# Altium schematic symbol library eLIB.SchLib: 178 symbols (part 2 of 2)
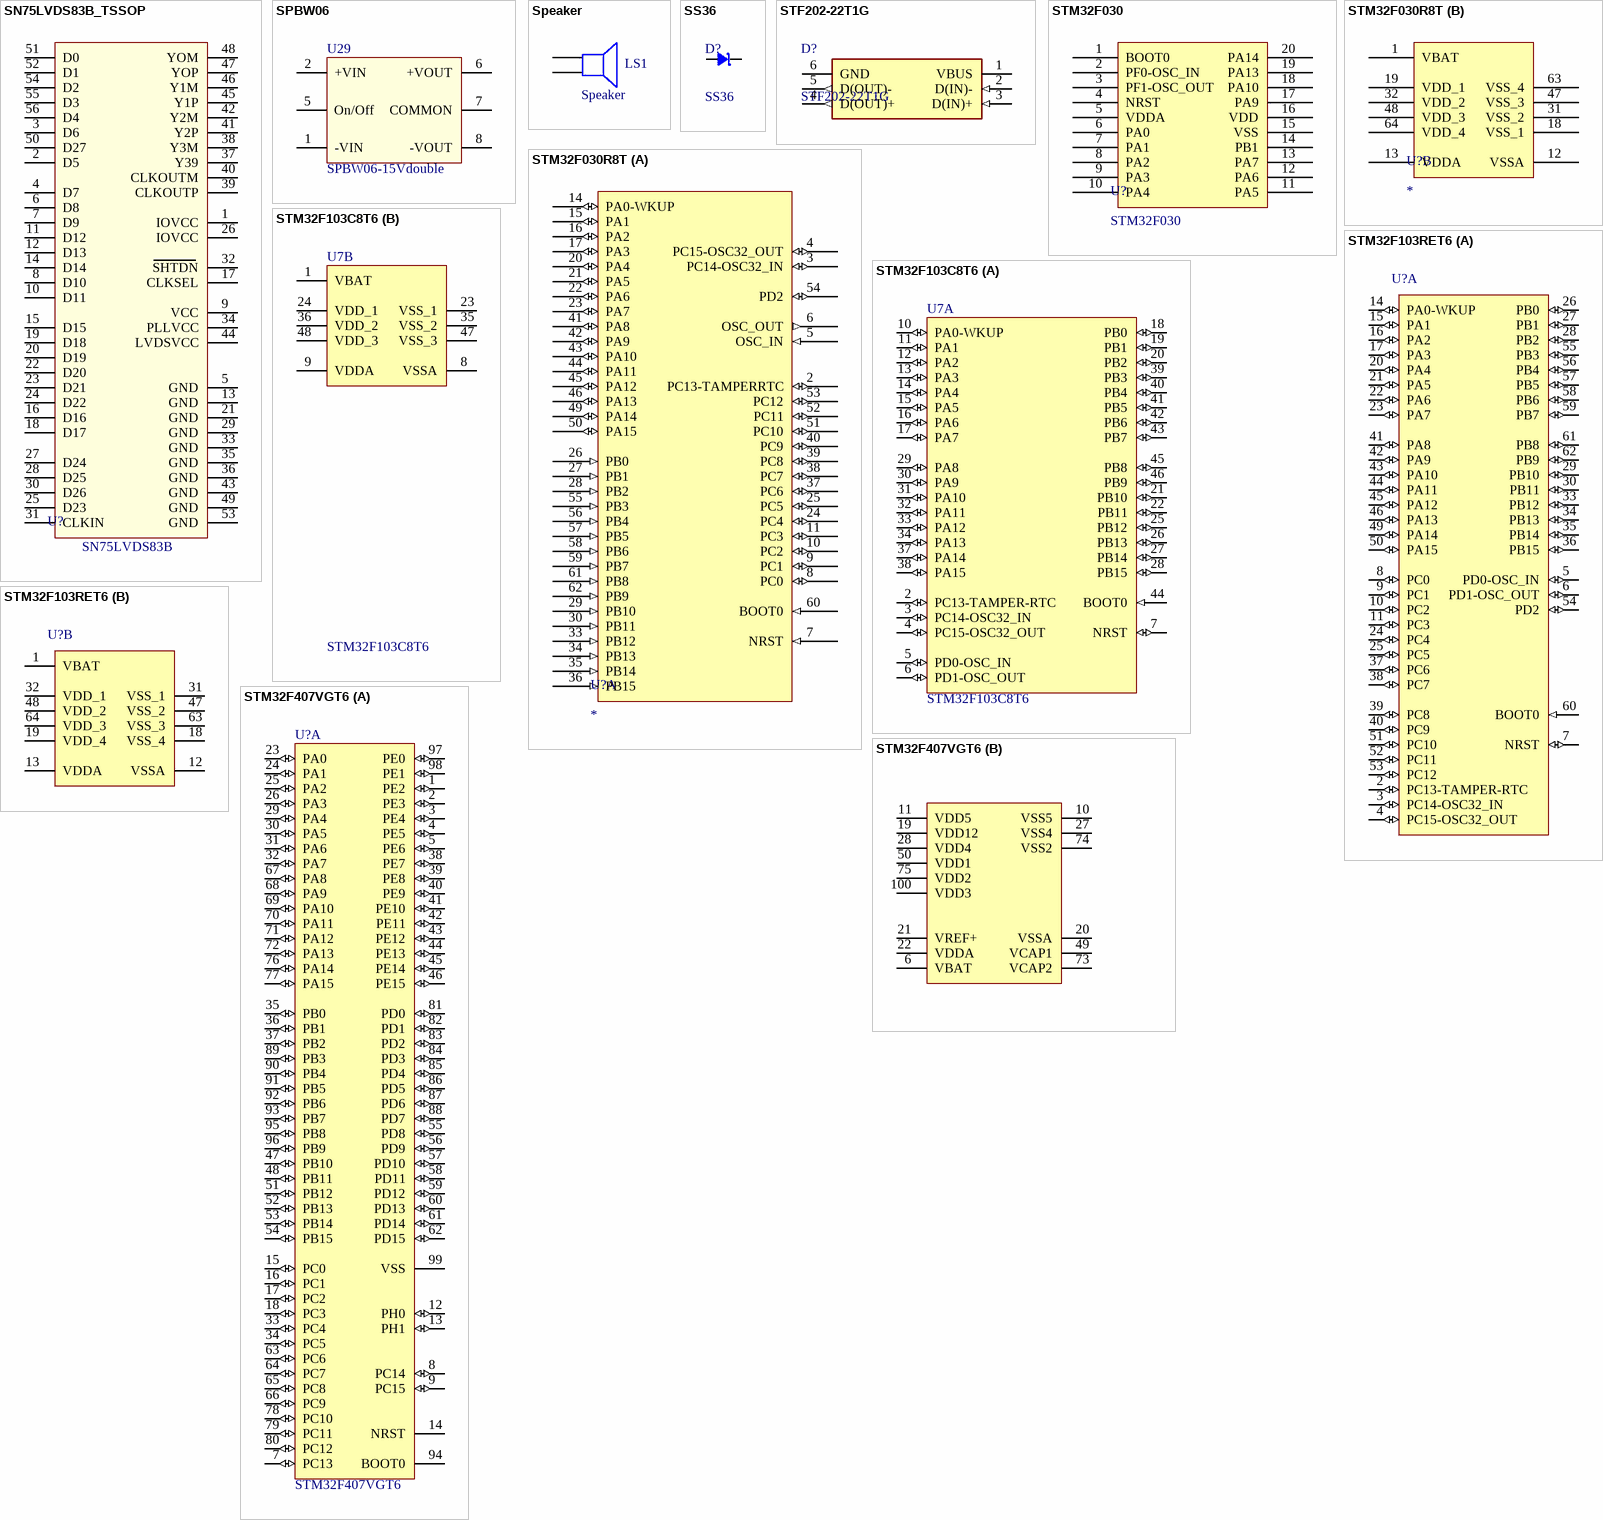
[diagram p7: symbols SN75LVDS83B_TSSOP to STM32F407VGT6]

## STM32F407VGT6
designator U?
STM32 Manta (STM32F407VGT6); Manuf_1: STM; Provided: ST; Ref St: 9175122; ECCN_US/EU: 3A991A2/NEC; Manuf_Part_1: STM32F407VGT6; Distrib: ST; Footprint: QFP100
footprint QFP50P1600X1600X160-100N
part A pins: 1 PE2 (io), 2 PE3 (io), 3 PE4 (io), 4 PE5 (io), 5 PE6 (io), 7 PC13 (io), 8 PC14 (io), 9 PC15 (io), 12 PH0 (io), 13 PH1 (io), 14 NRST, 15 PC0 (io), 16 PC1 (io), 17 PC2 (io), 18 PC3 (io), 23 PA0 (io), 24 PA1 (io), 25 PA2 (io), 26 PA3 (io), 29 PA4 (io), 30 PA5 (io), 31 PA6 (io), 32 PA7 (io), 33 PC4 (io), 34 PC5 (io), 35 PB0 (io), 36 PB1 (io), 37 PB2 (io), 38 PE7 (io), 39 PE8 (io), 40 PE9 (io), 41 PE10 (io), 42 PE11 (io), 43 PE12 (io), 44 PE13 (io), 45 PE14 (io), 46 PE15 (io), 47 PB10 (io), 48 PB11 (io), 51 PB12 (io), 52 PB13 (io), 53 PB14 (io), 54 PB15 (io), 55 PD8 (io), 56 PD9 (io), 57 PD10 (io), 58 PD11 (io), 59 PD12 (io), 60 PD13 (io), 61 PD14 (io), 62 PD15 (io), 63 PC6 (io), 64 PC7 (io), 65 PC8 (io), 66 PC9 (io), 67 PA8 (io), 68 PA9 (io), 69 PA10 (io), 70 PA11 (io), 71 PA12 (io), 72 PA13 (io), 76 PA14 (io), 77 PA15 (io), 78 PC10 (io), 79 PC11 (io), 80 PC12 (io), 81 PD0 (io), 82 PD1 (io), 83 PD2 (io), 84 PD3 (io), 85 PD4 (io), 86 PD5 (io), 87 PD6 (io), 88 PD7 (io), 89 PB3 (io), 90 PB4 (io), 91 PB5 (io), 92 PB6 (io), 93 PB7 (io), 94 BOOT0 (oc), 95 PB8 (io), 96 PB9 (io), 97 PE0 (io), 98 PE1 (io), 99 VSS
part B pins: 6 VBAT, 10 VSS5, 11 VDD5, 19 VDD12, 20 VSSA, 21 VREF+, 22 VDDA, 27 VSS4, 28 VDD4, 49 VCAP1, 50 VDD1, 73 VCAP2, 74 VSS2, 75 VDD2, 100 VDD3

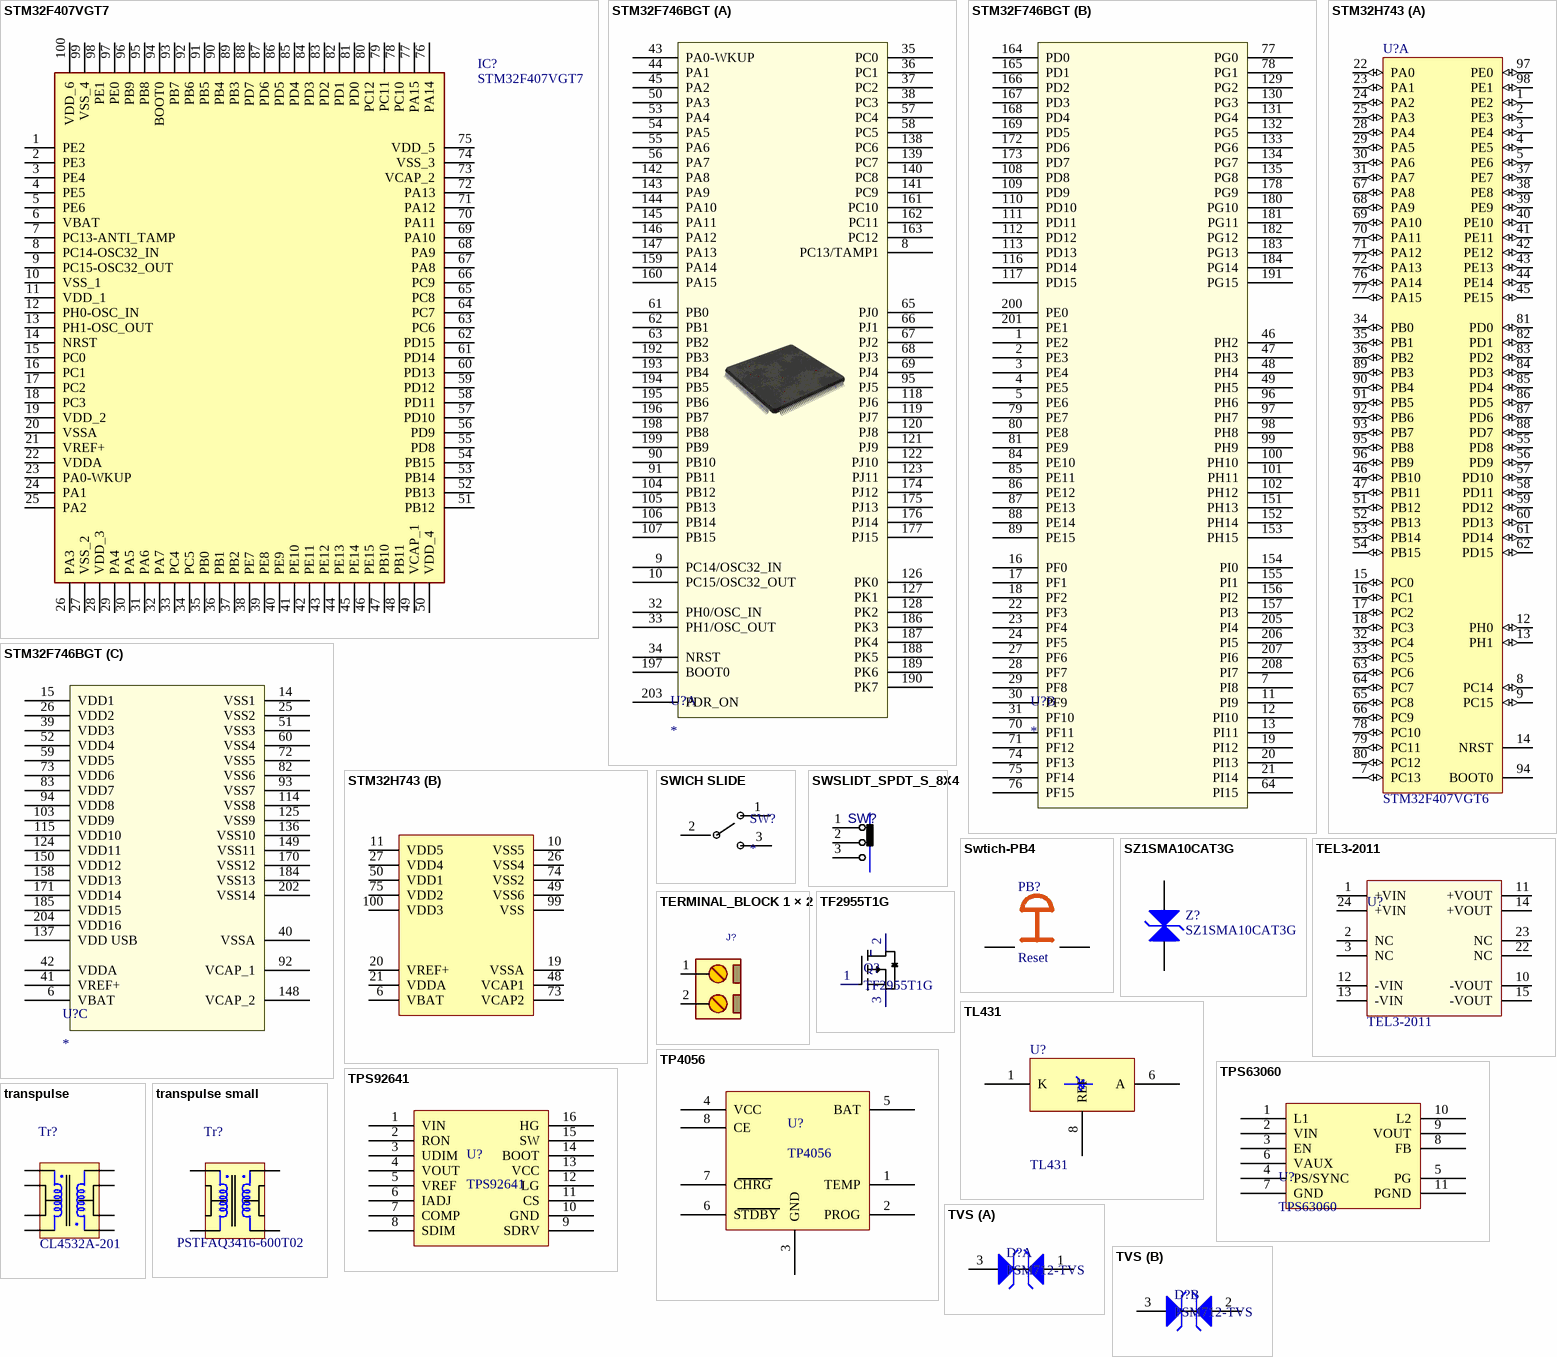
[diagram p5: symbols STM32F407VGT7 to TVS]

## STM32F407VGT7
designator IC?
Integrated Circuit; Manufacturer_Name: STMicroelectronics; Datasheet Link: http://www.st.com/content/ccc/resource/technical/document/datasheet/ef/92/76/6d/bb/c2/4f/f7/DM00037051.pdf/files/DM00037051.pdf/jcr:content/translations/en.DM00037051.pdf; Height: 1.6mm; Manufacturer_Part_Number: STM32F407VGT7; Mouser Part Number: 511-STM32F407VGT7; Mouser Price/Stock: https://www.mouser.co.uk/ProductDetail/STMicroelectronics/STM32F407VGT7?qs=%2F%2FVjtefuLz5JNRfO7nioEQ%3D%3D; Arrow Part Number: STM32F407VGT7; Arrow Price/Stock: https://www.arrow.com/en/products/stm32f407vgt7/stmicroelectronics?region=nac
footprint QFP50P1600X1600X160-100N
pins: 1 PE2, 2 PE3, 3 PE4, 4 PE5, 5 PE6, 6 VBAT (power), 7 PC13-ANTI_TAMP, 8 PC14-OSC32_IN, 9 PC15-OSC32_OUT, 10 VSS_1 (power), 11 VDD_1 (power), 12 PH0-OSC_IN, 13 PH1-OSC_OUT, 14 NRST, 15 PC0, 16 PC1, 17 PC2, 18 PC3, 19 VDD_2 (power), 20 VSSA (power), 21 VREF+ (power), 22 VDDA (power), 23 PA0-WKUP, 24 PA1, 25 PA2, 26 PA3, 27 VSS_2 (power), 28 VDD_3 (power), 29 PA4, 30 PA5, 31 PA6, 32 PA7, 33 PC4, 34 PC5, 35 PB0, 36 PB1, 37 PB2, 38 PE7, 39 PE8, 40 PE9, 41 PE10, 42 PE11, 43 PE12, 44 PE13, 45 PE14, 46 PE15, 47 PB10, 48 PB11, 49 VCAP_1 (power), 50 VDD_4 (power), 51 PB12, 52 PB13, 53 PB14, 54 PB15, 55 PD8, 56 PD9, 57 PD10, 58 PD11, 59 PD12, 60 PD13, 61 PD14, 62 PD15, 63 PC6, 64 PC7, 65 PC8, 66 PC9, 67 PA8, 68 PA9, 69 PA10, 70 PA11, 71 PA12, 72 PA13, 73 VCAP_2 (power), 74 VSS_3 (power), 75 VDD_5 (power), 76 PA14, 77 PA15, 78 PC10, 79 PC11, 80 PC12, 81 PD0, 82 PD1, 83 PD2, 84 PD3, 85 PD4, 86 PD5, 87 PD6, 88 PD7, 89 PB3, 90 PB4, 91 PB5, 92 PB6, 93 PB7, 94 BOOT0, 95 PB8, 96 PB9, 97 PE0, 98 PE1, 99 VSS_4 (power), 100 VDD_6 (power)

## STM32F746BGT
designator U?
part A pins: 8 PC13/TAMP1, 9 PC14/OSC32_IN, 10 PC15/OSC32_OUT, 32 PH0/OSC_IN, 33 PH1/OSC_OUT, 34 NRST, 35 PC0, 36 PC1, 37 PC2, 38 PC3, 43 PA0-WKUP, 44 PA1, 45 PA2, 50 PA3, 53 PA4, 54 PA5, 55 PA6, 56 PA7, 57 PC4, 58 PC5, 61 PB0, 62 PB1, 63 PB2, 65 PJ0, 66 PJ1, 67 PJ2, 68 PJ3, 69 PJ4, 90 PB10, 91 PB11, 95 PJ5, 104 PB12, 105 PB13, 106 PB14, 107 PB15, 118 PJ6, 119 PJ7, 120 PJ8, 121 PJ9, 122 PJ10, 123 PJ11, 126 PK0, 127 PK1, 128 PK2, 138 PC6, 139 PC7, 140 PC8, 141 PC9, 142 PA8, 143 PA9, 144 PA10, 145 PA11, 146 PA12, 147 PA13, 159 PA14, 160 PA15, 161 PC10, 162 PC11, 163 PC12, 174 PJ12, 175 PJ13, 176 PJ14, 177 PJ15, 186 PK3, 187 PK4, 188 PK5, 189 PK6, 190 PK7, 192 PB3, 193 PB4, 194 PB5, 195 PB6, 196 PB7, 197 BOOT0, 198 PB8, 199 PB9, 203 PDR_ON
part B pins: 1 PE2, 2 PE3, 3 PE4, 4 PE5, 5 PE6, 7 PI8, 11 PI9, 12 PI10, 13 PI11, 16 PF0, 17 PF1, 18 PF2, 19 PI12, 20 PI13, 21 PI14, 22 PF3, 23 PF4, 24 PF5, 27 PF6, 28 PF7, 29 PF8, 30 PF9, 31 PF10, 46 PH2, 47 PH3, 48 PH4, 49 PH5, 64 PI15, 70 PF11, 71 PF12, 74 PF13, 75 PF14, 76 PF15, 77 PG0, 78 PG1, 79 PE7, 80 PE8, 81 PE9, 84 PE10, 85 PE11, 86 PE12, 87 PE13, 88 PE14, 89 PE15, 96 PH6, 97 PH7, 98 PH8, 99 PH9, 100 PH10, 101 PH11, 102 PH12, 108 PD8, 109 PD9, 110 PD10, 111 PD11, 112 PD12, 113 PD13, 116 PD14, 117 PD15, 129 PG2, 130 PG3, 131 PG4, 132 PG5, 133 PG6, 134 PG7, 135 PG8, 151 PH13, 152 PH14, 153 PH15, 154 PI0, 155 PI1, 156 PI2, 157 PI3, 164 PD0, 165 PD1, 166 PD2, 167 PD3, 168 PD4, 169 PD5, 172 PD6, 173 PD7, 178 PG9, 180 PG10, 181 PG11, 182 PG12, 183 PG13, 184 PG14, 191 PG15, 200 PE0, 201 PE1, 205 PI4, 206 PI5, 207 PI6, 208 PI7
part C pins: 6 VBAT (power), 14 VSS1 (power), 15 VDD1 (power), 25 VSS2 (power), 26 VDD2 (power), 39 VDD3 (power), 40 VSSA (power), 41 VREF+ (power), 42 VDDA (power), 51 VSS3 (power), 52 VDD4 (power), 59 VDD5 (power), 60 VSS4 (power), 72 VSS5 (power), 73 VDD6 (power), 82 VSS6 (power), 83 VDD7 (power), 92 VCAP_1, 93 VSS7 (power), 94 VDD8 (power), 103 VDD9 (power), 114 VSS8 (power), 115 VDD10 (power), 124 VDD11 (power), 125 VSS9 (power), 136 VSS10 (power), 137 VDD USB (power), 148 VCAP_2, 149 VSS11 (power), 150 VDD12 (power), 158 VDD13 (power), 170 VSS12 (power), 171 VDD14 (power), 184 VSS13 (power), 185 VDD15 (power), 202 VSS14 (power), 204 VDD16 (power)

## STM32H743
designator U?, comment STM32F407VGT6
STM32 Manta (STM32F407VGT6); Manuf_1: STM; Provided: ST; Ref St: 9175122; ECCN_US/EU: 3A991A2/NEC; Manuf_Part_1: STM32F407VGT6; Distrib: ST; Footprint: QFP100
footprint QFP50P1600X1600X160-100N
part A pins: 1 PE2 (io), 2 PE3 (io), 3 PE4 (io), 4 PE5 (io), 5 PE6 (io), 7 PC13 (io), 8 PC14 (io), 9 PC15 (io), 12 PH0 (io), 13 PH1 (io), 14 NRST, 15 PC0 (io), 16 PC1 (io), 17 PC2 (io), 18 PC3 (io), 22 PA0 (io), 23 PA1 (io), 24 PA2 (io), 25 PA3 (io), 28 PA4 (io), 29 PA5 (io), 30 PA6 (io), 31 PA7 (io), 32 PC4 (io), 33 PC5 (io), 34 PB0 (io), 35 PB1 (io), 36 PB2 (io), 37 PE7 (io), 38 PE8 (io), 39 PE9 (io), 40 PE10 (io), 41 PE11 (io), 42 PE12 (io), 43 PE13 (io), 44 PE14 (io), 45 PE15 (io), 46 PB10 (io), 47 PB11 (io), 51 PB12 (io), 52 PB13 (io), 53 PB14 (io), 54 PB15 (io), 55 PD8 (io), 56 PD9 (io), 57 PD10 (io), 58 PD11 (io), 59 PD12 (io), 60 PD13 (io), 61 PD14 (io), 62 PD15 (io), 63 PC6 (io), 64 PC7 (io), 65 PC8 (io), 66 PC9 (io), 67 PA8 (io), 68 PA9 (io), 69 PA10 (io), 70 PA11 (io), 71 PA12 (io), 72 PA13 (io), 76 PA14 (io), 77 PA15 (io), 78 PC10 (io), 79 PC11 (io), 80 PC12 (io), 81 PD0 (io), 82 PD1 (io), 83 PD2 (io), 84 PD3 (io), 85 PD4 (io), 86 PD5 (io), 87 PD6 (io), 88 PD7 (io), 89 PB3 (io), 90 PB4 (io), 91 PB5 (io), 92 PB6 (io), 93 PB7 (io), 94 BOOT0 (oc), 95 PB8 (io), 96 PB9 (io), 97 PE0 (io), 98 PE1 (io)
part B pins: 6 VBAT, 10 VSS5, 11 VDD5, 19 VSSA, 20 VREF+, 21 VDDA, 26 VSS4, 27 VDD4, 48 VCAP1, 49 VSS6, 50 VDD1, 73 VCAP2, 74 VSS2, 75 VDD2, 99 VSS, 100 VDD3

## SWICH SLIDE
designator SW?
SWITCH, SLIDE, SPDT, 8.6X4.3mm, THD
footprint SWSLIDT_SPDT_R_8X4 (Subminiator SPDT switch)
pins: 1, 2, 3

## SWSLIDT_SPDT_S_8X4
designator SW?, comment SlideSwitch  (value not drawn)
SWITCH, SLIDE, SPDT, 8.6X4.3mm, THD; MANF_PART#: OS102011MS2QN1; MANF: C&K; DESC: DESCRIPTION; VALUE: SlideSwitch; ASSEMBLY: ASSEMBLY; PARAM: PARAM; PRICE: 0.4$
footprint SWSLIDT_SPDT_S_8X4 (Switch, Slide, SPDT, Straight, THD, 8.6X4.3mm)
pins: 1 P1, 2 P3, 3 P4

## Swtich-PB4
designator PB?, comment Reset
4-Pin Push Button
footprint SWITCH-PB4
pins: 1, 2

## SZ1SMA10CAT3G
designator Z?
ESD Suppressors / TVS Diodes 10V 400W BI-DIR AEC Q101
footprint SMA (Transient Voltage Suppressor-Bidirectional zener diode)
pins: 1 A, 2 B

## TEL3-2011
designator U?
10 – 30 VDC IN, 5 VDC Vout, 600 mA Iout; VALUE: TEL3-2011
pins: 1 +VIN, 2 NC, 3 NC, 10 -VOUT, 11 +VOUT, 12 -VIN, 13 -VIN, 14 +VOUT, 15 -VOUT, 22 NC, 23 NC, 24 +VIN

## TERMINAL_BLOCK 1 × 2
designator J?, comment CONN_TB8  (value not drawn)
CONN, TERMINAL BLOCK, 5.08mm pitch; VALUE: CONN_TB8
footprint terminal block - 2828372 (terminal block 2 pin)
pins: 1, 2

## TF2955T1G
designator Q?
MOSFET -60V 2.6A P-Channel
footprint SOT-223-3
pins: 1 G, 2 D, 3 S, 4

## TL431
designator U?
Programmable refrence
footprint LM358 (SOIC, 8-Leads, Body 4.90x3.90mm, Pitch 1.27mm, IPC Medium Density)
pins: 1 K, 6 A, 8 REF

## TP4056
designator U?
charger for single cell lithium-ion
footprint TP4056 (SOIC, 8-Leads, Body 4.90x3.90mm, Pitch 1.27mm, IPC Medium Density)
pins: 1 TEMP, 2 PROG, 3 GND (power), 4 VCC (power), 5 BAT, 6 STDBY, 7 CHRG, 8 CE

## TPS63060
designator U?
2.5V to 12V input voltage, 93% Efficient, 2.25A Switch Current Limit, Buck-Boost Converter
footprint TPS63060 (QFN, 16-Leads, HIGH INPUT VOLTAGE BUCK-BOOST CONVERTER WITH 2A SWITCH CURRENT)
pins: 1 L1, 2 VIN (power), 3 EN, 4 PS/SYNC, 5 PG, 6 VAUX, 7 GND (power), 8 FB, 9 VOUT, 10 L2, 11 PGND (power)

## TPS92641
designator U?
footprint TPS92641 (TSOP, 16-Leads, Body 5.00x4.40mm, Pitch 0.65mm, Thermal Pad 3.30x3.30mm, IPC Medium Density)
pins: 1 VIN, 2 RON, 3 UDIM, 4 VOUT, 5 VREF, 6 IADJ, 7 COMP, 8 SDIM, 9 SDRV, 10 GND, 11 CS, 12 LG, 13 VCC, 14 BOOT, 15 SW, 16 HG

## transpulse
designator Tr?, comment CL4532A-201
SMD pulse transformer 1.5kV 2.5Ω 200uH 1CT:1CT; MANF: OMRON; MANF_P#: G8QN-1C4 DC12; PARAM2: 16VDC, 30A; PARAM: 12V, 50mA; PRICE: PRICE; Value: CL4532A-201
pins: 1, 2, 3, 4, 5, 6, 7, 8

## transpulse small
designator Tr?, comment PSTFAQ3416-600T02
MANF: OMRON; MANF_P#: G8QN-1C4 DC12; PARAM2: 16VDC, 30A; PARAM: 12V, 50mA; PRICE: PRICE; Value: PSTFAQ3416-600T02
footprint PSTFAQ3416-600T020 (trans pulse)
pins: 1, 2, 3, 4

## TVS
designator D?, comment PSM712-TVS
transiebt voltage suppressor
footprint NPN (SOT23, 3-Leads, Body 2.90x2.45mm, Pitch 0.95mm, IPC Medium Density)
part A pins: 1 A, 3 A
part B pins: 2 A, 3 C

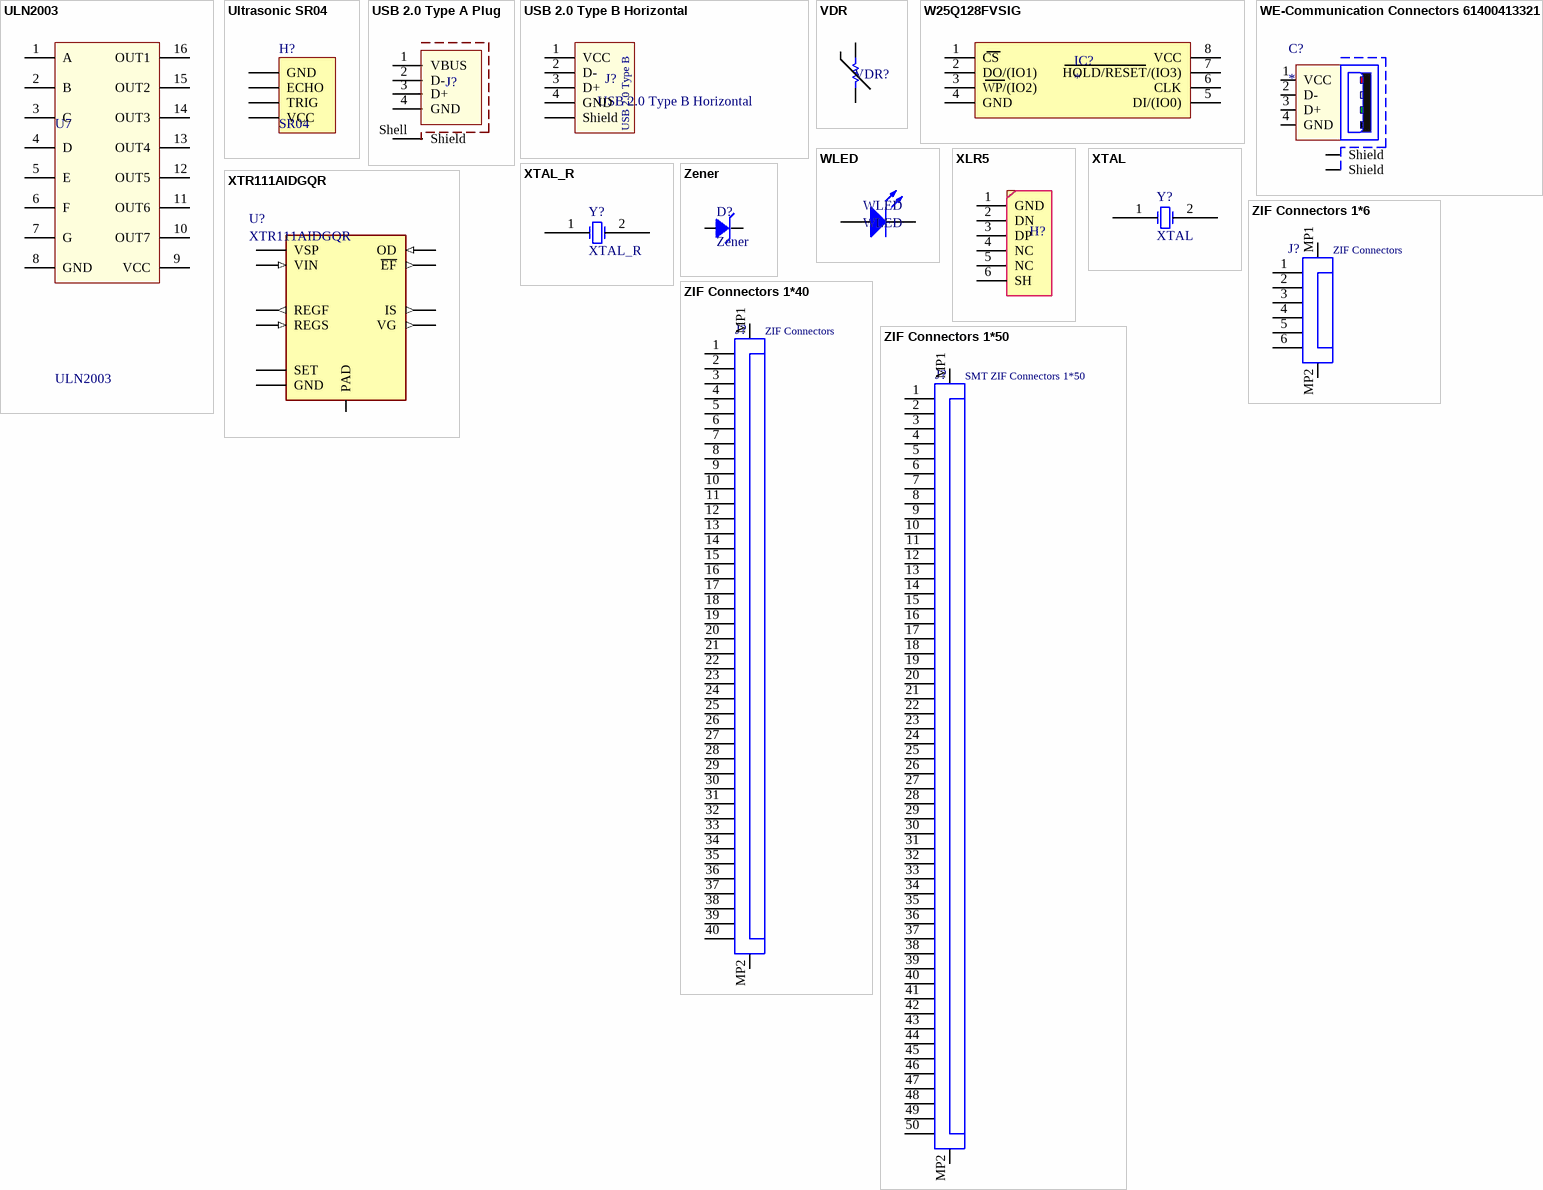
[diagram p6: symbols ULN2003 to ZIF Connectors 1*50]

## ULN2003
designator U7
DRIVER 7-SEGMENT
footprint ULN2003 (SOP, 16-Leads, Body 9.90x3.90mm, Pitch 1.27mm, IPC Medium Density)
pins: 1 A, 2 B, 3 C, 4 D, 5 E, 6 F, 7 G, 8 GND, 9 VCC, 10 OUT7, 11 OUT6, 12 OUT5, 13 OUT4, 14 OUT3, 15 OUT2, 16 OUT1

## Ultrasonic SR04
designator H?, comment SR04
Ultrasonic SR04; LatestRevisionDate: 17-Jul-2002; LatestRevisionNote: Re-released for DXP Platform.; Publisher: Altium Limited
footprint ULTRASONIC SR04 (HC - SR04 Ultrasonic module)
pins: 1 GND, 2 ECHO, 3 TRIG, 4 VCC

## USB 2.0 Type A Plug
designator J?
USB 2.0 Type A Plug WR-COM, Horizontal, SMT, with Clips; Part Number: 629004113921; Rated Current: 1.5 A; Contact Resistance: 20 mOhm; Working Voltage: 30 VAC; ComponentLink1Description: Manufacturer; ComponentLink1URL: http://www.we-online.de; ComponentLink2Description: Datasheet; ComponentLink2URL: https://katalog.we-online.de/em/datasheet/629004113921.pdf; Published Date: September 2018; Publisher: Wurth Elektronik; Orientation: Horizontal; Connector Type: USB 2.0 Type A; Operating Temperature: -40 to 105 degC; Mounting Technology: SMT; Gender: Plug; Packaging: Tube
footprint USB 2.0 Plug (USB 2.0 Plug Type A SMT with Clip)
pins: 1 VBUS, 2 D-, 3 D+, 4 GND, Shell Shield

## USB 2.0 Type B Horizontal
designator J?
footprint USB-2-B-H (USB 2.0 Type B Horizontal)
pins: 1 VCC, 2 D-, 3 D+, 4 GND, Shell Shield
text: USB 2.0 Type B

## VDR
designator VDR?
33V
footprint VDR (voltage depended resistor)
pins: 1, 2

## W25Q128FVSIG
designator IC?
Integrated Circuit; Manufacturer_Name: Winbond; Manufacturer_Part_Number: W25Q128FVSIG; Datasheet Link: https://www.winbond.com/resource-files/w25q128fv rev.m 05132016 kms.pdf; Height: 2.16mm
footprint W25Q128JV (128Mbit NOR flash SPI)
pins: 1 CS, 2 DO/(IO1), 3 WP/(IO2), 4 GND, 5 DI/(IO0), 6 CLK, 7 HOLD/RESET/(IO3), 8 VCC

## WE-Communication Connectors 61400413321
designator C?
WR-COM USB Vertical Type B; Manufacturer: Würth Elektronik eiSos GmbH; partNo: 61400413321; ComponentLink1 Description: Manufacturer; ComponentLink2 Description: Datasheet; NoPins: 4; ComponentLink1URL: http://www.we-online.de; ComponentLink2URL: http://katalog.we-online.de/em/datasheet/61400413321.pdf; Created by: Karrer Zheng; Created Date: 10/10/2014
footprint 61400413321 (F Str 04p Btype vertical USB)
pins: 1 VCC, 2 D-, 3 D+, 4 GND, Z1 Shield, Z2 Shield

## WLED
designator WLED
footprint WLED
pins: 1 A, 2 K

## XLR5
designator H?, comment XLR5P  (value not drawn)
footprint XLR SPF5 -24 (ZWEE female 5 pole XLR)
pins: 1 GND, 2 DN, 3 DP, 4 NC, 5 NC, 6 SH

## XTAL
designator Y?
footprint XTAL
pins: 1, 2

## XTAL_R
designator Y?
footprint XTAL_R
pins: 1, 2

## XTR111AIDGQR
designator U?
IC PREC VOLT-CURR CONV/TX 10MSOP; Manufacturer_Name: Texas Instruments; Datasheet Link: http://www.ti.com/lit/gpn/xtr111; Height: 1.1mm; Manufacturer_Part_Number: XTR111AIDGQR; Mouser Part Number: 595-XTR111AIDGQR; Mouser Price/Stock: https://www.mouser.com/Search/Refine.aspx?Keyword=595-XTR111AIDGQR
footprint SOP50P490X110-11N
pins: 1 VSP (power), 2 IS (out), 3 VG (out), 4 REGS (in), 5 REGF (out), 6 VIN (in), 7 SET (power), 8 ~{EF} (out), 9 OD (in), 10 GND, 11 PAD

## Zener
designator D?
footprint ZENER 3.3V (MELF Diode, 2-Leads, Body 3.50x1.47mm, IPC Medium Density)
pins: 1 A, 2 K

## ZIF Connectors 1*6
designator J?, comment ZIF Connectors
SMT ZIF Connectors WR-FPC, Horizontal, Top Contact, pitch 0.5 mm, 6 pins; Part Number: 68710614022; Rated Current: 0.5 A; Contact Resistance: 20 mOhm; Withstanding Voltage: 250 VAC; Working Voltage: 50 VAC; Pin Number: 6; Pitch: 0.5 mm; ComponentLink1Description: Manufacturer; ComponentLink1URL: http://www.we-online.de; ComponentLink2Description: Datasheet; ComponentLink2URL: https://katalog.we-online.de/em/datasheet/68710614022.pdf; Published Date: August 2018; Publisher: Wurth Elektronik; Operating Temperature: -25 to 85 degC; Packaging: Tape and Reel; Mounting Technology: SMT; Orientation: Horizontal; Contact Design: Top Contact
footprint 68710614022
pins: 1, 2, 3, 4, 5, 6, MP1, MP2

## ZIF Connectors 1*40
designator J?, comment ZIF Connectors
SMT ZIF Connectors WR-FPC, Horizontal, Back Locking Dual Contact, pitch 0.5 mm, 40 pins; Part Number: 687140182122; Rated Current: 0.5 A; Contact Resistance: 30 mOhm; Withstanding Voltage: 250 VAC; Working Voltage: 50 VAC; Pin Number: 40; Pitch: 0.5 mm; ComponentLink1Description: Manufacturer; ComponentLink1URL: http://www.we-online.de; ComponentLink2Description: Datasheet; ComponentLink2URL: https://katalog.we-online.de/em/datasheet/687140182122.pdf; Published Date: August 2018; Publisher: Wurth Elektronik; Operating Temperature: -55 to 85 degC; Packaging: Tape and Reel; Mounting Technology: SMT; Orientation: Horizontal; Contact Design: Back Locking Dual Contact
footprint ZIF Connectors 1*40
pins: 1, 2, 3, 4, 5, 6, 7, 8, 9, 10, 11, 12, 13, 14, 15, 16, 17, 18, 19, 20, 21, 22, 23, 24, 25, 26, 27, 28, 29, 30, 31, 32, 33, 34, 35, 36, 37, 38, 39, 40, MP1, MP2

## ZIF Connectors 1*50
designator J?, comment SMT ZIF Connectors 1*50
SMT ZIF Connectors WR-FPC, Horizontal, Top Contact, pitch 0.5 mm, 50 pins; Part Number: 68715014022; Rated Current: 0.5 A; Contact Resistance: 20 mOhm; Withstanding Voltage: 250 VAC; Working Voltage: 50 VAC; Pin Number: 50; Pitch: 0.5 mm; ComponentLink1Description: Manufacturer; ComponentLink1URL: http://www.we-online.de; ComponentLink2Description: Datasheet; ComponentLink2URL: https://katalog.we-online.de/em/datasheet/68715014022.pdf; Published Date: August 2018; Publisher: Wurth Elektronik; Operating Temperature: -25 to 85 degC; Packaging: Tape and Reel; Mounting Technology: SMT; Orientation: Horizontal; Contact Design: Top Contact
footprint ZIF Connectors 1*50 (ZIF Connectors, Horizontal, Top Contact, pitch 0.5mm, 50p)
pins: 1, 2, 3, 4, 5, 6, 7, 8, 9, 10, 11, 12, 13, 14, 15, 16, 17, 18, 19, 20, 21, 22, 23, 24, 25, 26, 27, 28, 29, 30, 31, 32, 33, 34, 35, 36, 37, 38, 39, 40, 41, 42, 43, 44, 45, 46, 47, 48, 49, 50, MP1, MP2